# Altium footprint library SensingBox.PcbLib: 44 footprints (part 1 of 3)
Each footprint in its own frame and in the unit in brackets; x right, y up, seen from the top. Pads: shape width x height; smd on the part's side, far side on the other; paste and mask are expansions set on the pad; w line width, h text height; cw(c..) or ccw(c..) is an arc to the next point about the centre after c.
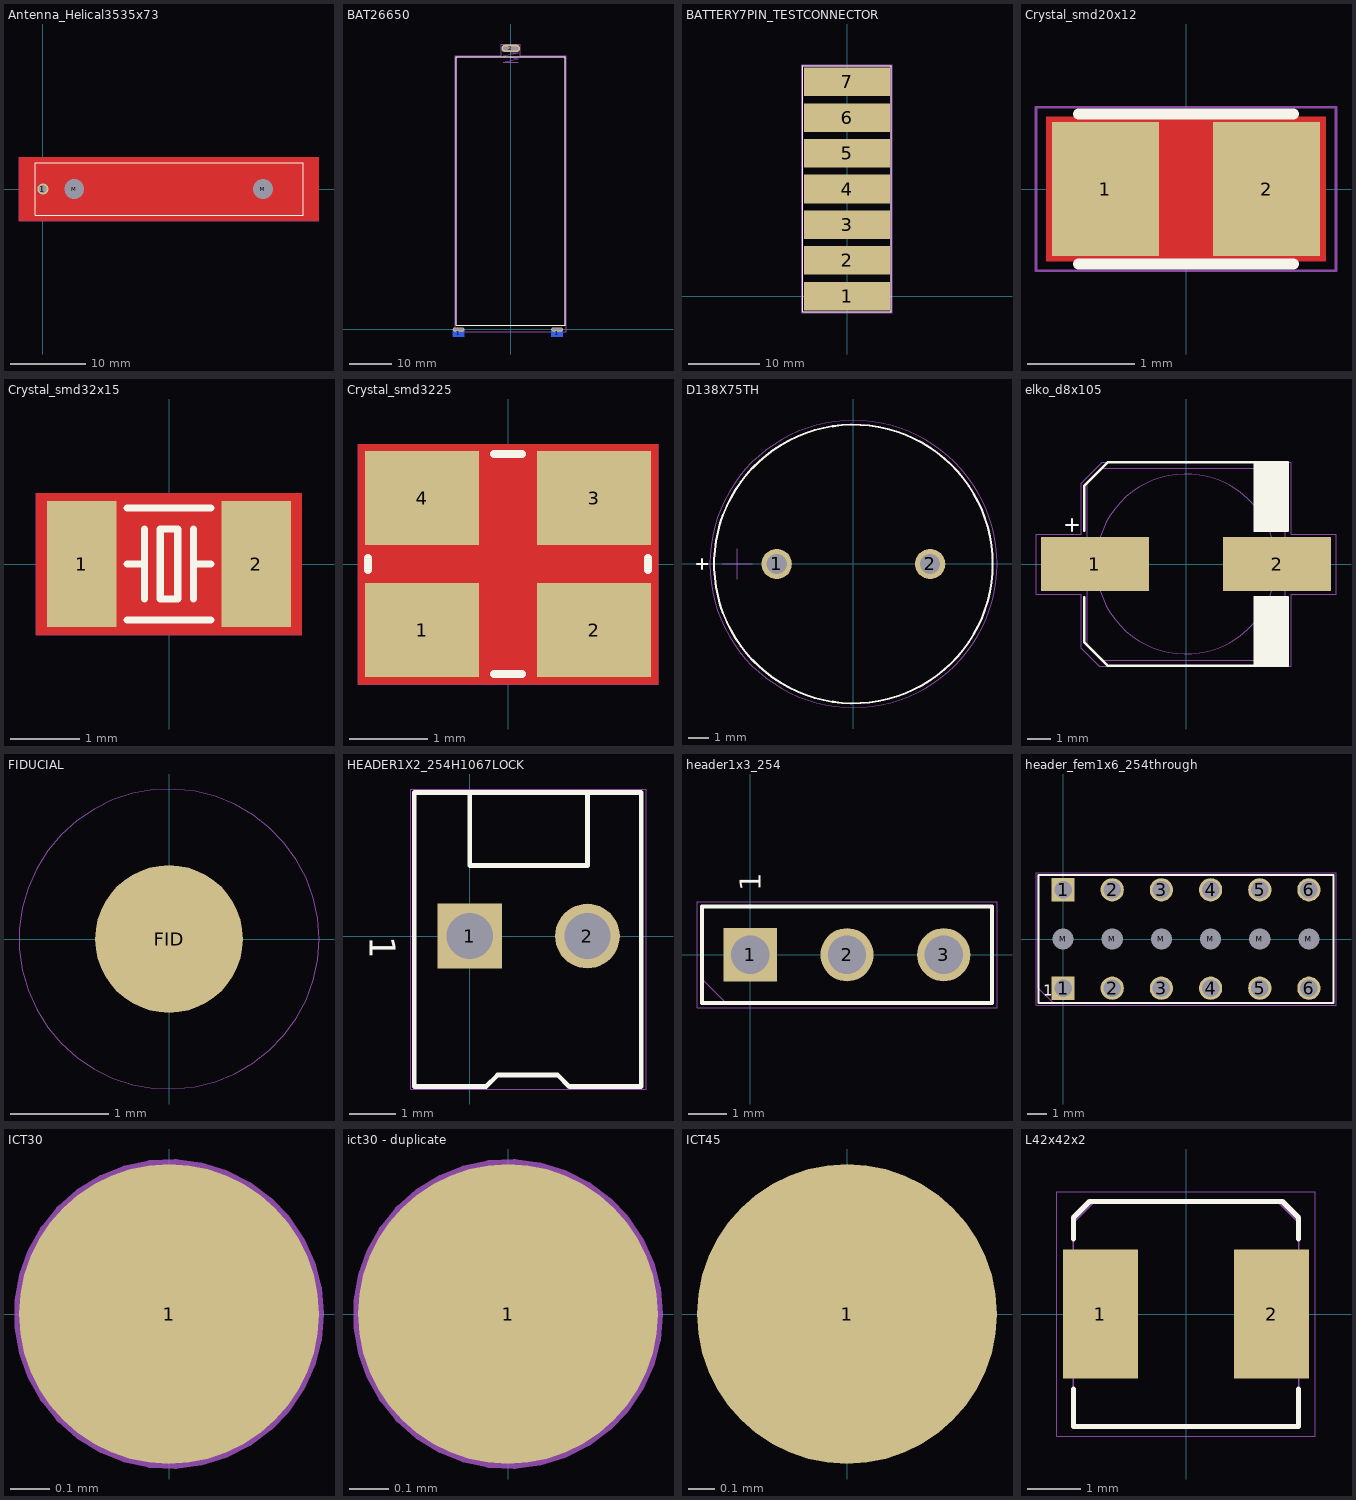
[diagram p0: the footprints below, top view; thin cyan lines are the x and y axes]

## Antenna_Helical3535x73 [mm]
pads (3):
  round 1.5 hole 1: 1(0,0)
  round 1 hole 2.6 unplated: M(4.15,0) M(29.15,0)
Top Layer:
  pour cut-out: -3.175,-4.191 36.576,-4.191 36.576,4.191 -3.175,4.191
Top Overlay:
  lines w0.102: -1,-3.5 -1,3.5 34.5,3.5 34.5,-3.5 -1,-3.5
Mechanical 3:
  lines w0.025: -1,-3.5 -1,3.5 34.5,3.5 34.5,-3.5 -1,-3.5
Mechanical 5:
  lines w0: -3.175,-4.191 -3.175,4.191 36.576,4.191 36.576,-4.191 -3.175,-4.191
Mechanical 7:
  text ".Designator" at 16.256,1.397 h0.38
3D body: height 1.8, standoff -2.2, extent 27.9,-1.249 30.4,1.25
3D body: height 1.8, standoff -2.2, extent 2.9,-1.249 5.4,1.25
3D body: height 7.3, standoff 0.3, extent -1,-3.5 34.5,3.5

## BAT26650 [mm]
pads (5):
  rect 2.8x1.8 smd far side: 1(-12.45,-0.9) 1(11.05,-0.9)
  oval 2.8x1 hole 0.5 slot 2.3 at 0 deg: 1(-12.45,0) 1(11.05,0)
  oval 4.5x1.8 hole 0.8 slot 3.5 at 0 deg: 2(0,67)
Top Overlay:
  lines w0.102: -13,1 -13,65 13,65 13,1 -13,1
Bottom Overlay:
  lines w0.102: -14.527,0 -14.019,0 ; -14.273,-0.254 -14.273,0.254 ; -12.638,0.885 -12.13,0.885 ; -12.384,0.631 -12.384,1.139 ; -10.88,0 -10.372,0 ; -10.626,-0.254 -10.626,0.254 ; -3.008,67 -2.5,67 ; -0.208,65.9 0.3,65.9 ; 2.492,67 3,67 ; 8.973,0 9.481,0 ; 9.227,-0.254 9.227,0.254 ; 10.862,0.885 11.37,0.885 ; 11.116,0.631 11.116,1.139 ; 12.62,0 13.128,0 ; 12.874,-0.254 12.874,0.254
Mechanical 3:
  lines w0.025: -12.704,0 -12.196,0 ; -12.45,-0.254 -12.45,0.254 ; -0.254,67 0.254,67 ; 0,67 0,65.984 1.734,65.984 1.75,66 -1.75,65.25 1.75,64.5 -1.75,63.75 1.75,63.75 ; 10.796,0 11.304,0 ; 11.05,-0.254 11.05,0.254 ; -13,1 -13,65 13,65 13,1 -13,1
Mechanical 5:
  lines w0: -13.208,-0.6 13.208,-0.6 13.208,65.2 2.3,65.2 2.3,65.9 2.3,68 -2.3,68 -2.3,65.2 -13.208,65.2 -13.208,-0.6
Mechanical 7:
  text ".Designator" at 7.898,29.868 h0.38
3D body: height 26, standoff 0, extent -13,0 13,65

## BATTERY7PIN_TESTCONNECTOR [mm]
pads (7):
  rect 12x4 smd paste-3: 1(0,0) 2(0,5) 3(0,10) 4(0,15) 5(0,20) 6(0,25) 7(0,30)
Top Overlay:
  lines w0.102: -6.223,-2.174 6.223,-2.174 6.223,32.243 -6.223,32.243 -6.223,-2.174
Mechanical 3:
  lines w0.025: -6.223,-2.174 6.223,-2.174 6.223,32.243 -6.223,32.243 -6.223,-2.174
Mechanical 5:
  lines w0: -6.35,-2.301 6.35,-2.301 6.35,32.37 -6.35,32.37 -6.35,-2.301
Mechanical 7:
  text ".Designator" at -1.524,14.59 h0.38
3D body: height 0.1, standoff 0, extent -6,28 6,32
3D body: height 0.1, standoff 0, extent -6,23 6,27
3D body: height 0.1, standoff 0, extent -6,18 6,22
3D body: height 0.1, standoff 0, extent -6,13 6,17
3D body: height 0.1, standoff 0, extent -6,8 6,12
3D body: height 0.1, standoff 0, extent -6,3 6,7
3D body: height 0.1, standoff 0, extent -6,-2 6,2

## Crystal_smd20x12 [mm]
pads (2):
  rect 1x1.25 smd: 1(-0.75,0) 2(0.75,0)
Top Layer:
  pour cut-out: -1.3,-0.675 1.3,-0.675 1.3,0.675 -1.3,0.675
Top Overlay:
  lines w0.102: -1,-0.7 1,-0.7 ; -1,0.7 1,0.7
Mechanical 3:
  lines w0.025: -1.025,-0.6 -1.025,0.6 1.025,0.6 1.025,-0.6 -1.025,-0.6
Mechanical 5:
  lines w0.025: -1.397,-0.762 -1.397,0.762 1.397,0.762 1.397,-0.762 -1.397,-0.762
Mechanical 7:
  text ".Designator" at 0.147,-0.241 h0.38
3D body: height 0.6, standoff 0, extent -1,-0.6 1,0.6

## Crystal_smd32x15 [mm]
pads (2):
  rect 1x1.8 smd: 1(-1.25,0) 2(1.25,0)
Top Layer:
  pour cut-out: -1.905,-1.016 1.905,-1.016 1.905,1.016 -1.905,1.016
Top Overlay:
  lines w0.102: -0.6,-0.8 0.6,-0.8 ; -0.6,0 -0.35,0 ; -0.6,0.8 0.6,0.8 ; -0.35,-0.5 -0.35,0.5 ; 0.35,-0.5 0.35,0.5 ; 0.35,0 0.6,0 ; -0.125,-0.5 -0.125,0.5 0.125,0.5 0.125,-0.5 -0.125,-0.5
Mechanical 3:
  lines w0.025: -1.6,-0.75 1.6,-0.75 1.6,0.75 -1.6,0.75 -1.6,-0.75
Mechanical 5:
  lines w0: -1.905,-1.016 1.905,-1.016 1.905,1.016 -1.905,1.016 -1.905,-1.016
Mechanical 7:
  text ".Designator" at 0,-0.279 h0.38
3D body: height 0.91, standoff 0, extent -1.61,-0.76 1.61,0.76

## Crystal_smd3225 [mil]
pads (4):
  rect 57x47 smd: 1(-43,-33) 2(43,-33) 3(43,33) 4(-43,33)
Top Layer:
  pour cut-out: -75,60 75,60 75,-60 -75,-60
Top Overlay:
  lines w4: -70,-3 -70,3 ; -7,-55 7,-55 ; -7,55 7,55 ; 70,-3 70,3
Mechanical 3:
  lines w1: -63,-41 -63,50 63,50 63,-50 -54,-50 -63,-41
Mechanical 5:
  lines w0: -75,-60 75,-60 75,60 -75,60 -75,-60
Mechanical 7:
  text ".Designator" at 15,-25 h15
3D body: height 29.53, standoff 0, extent -63,-49.21 62.98,49.21

## D138X75TH [mm]
pads (2):
  round 1.5 hole 1: 1(-3.8,0) 2(3.8,0)
Top Overlay:
  circle w0.102: c0,0 r6.9
  lines w0.102: -7.747,0 -7.239,0 ; -7.493,-0.254 -7.493,0.254
Mechanical 3:
  circle w0.025: c0,0 r6.9
  lines w0.025: -6.5,0 -5,0 ; -5.75,-0.75 -5.75,0.75
Mechanical 5:
  circle w0: c0,0 r7.112
Mechanical 7:
  text ".Designator" at 0.381,0.254 h0.38
3D body: height 7.5, standoff -2.95, extent -7,-7 7,7

## elko_d8x105 [mil]
pads (2):
  rect 180x90 smd: 1(-152,0) 2(152,0)
Top Overlay:
  rectangle: 114.17,-169.29 169.29,-55.12
  rectangle: 114.17,55.12 169.29,169.29
  lines w4: -200,65 -180,65 ; -190,55 -190,75 ; -169.29,-55 -169.29,-130.71 -130.71,-169.29 169.29,-169.29 169.29,-55 114.29,-55 114.17,-55.12 114.17,-169.29 ; -169.29,55 -169.29,130.71 -130.71,169.29 169.29,169.29 169.29,55 114.29,55 114.17,55.12 114.17,169.29
Mechanical 3:
  circle w0: c0,0 r150
  lines w1: -130,0 -100,0 ; -115,-15 -115,15 ; -165,-135 -165,135 -140,160 165,160 165,-160 -140,-160 -165,-135
Mechanical 5:
  lines w0: -250,-50 -175,-50 -175,-140 -145,-170 175,-170 175,-50 250,-50 250,50 175,50 175,170 -140,170 -175,135 -175,50 -250,50 -250,-50
Mechanical 7:
  text ".Designator" at -15,0 h15
3D body: height 413.39, standoff 11.42, extent -195.86,-163.39 193.9,163.38

## FIDUCIAL [mm]
pads (1):
  round 1.5 smd paste-1: FID(0,0)
Mechanical 5:
  circle w0: c0,0 r1.524
3D body: height 0.03, standoff 0, extent -0.75,-0.75 0.75,0.75

## HEADER1X2_254H1067LOCK [mil]
pads (2):
  rect 55x55 hole 39.37: 1(0,0)
  round 55 hole 39.37: 2(100,0)
Top Overlay:
  lines w4: 0,122.05 0,60 100,60 100,122.05 ; -47.24,-127.95 13.78,-127.95 23.62,-118.11 74.8,-118.11 84.65,-127.95 145.67,-127.95 145.67,122.05 -47.24,122.05 -47.24,-127.95
  text "1" at -85,0 h22.01
Mechanical 3:
  lines w1: 0,122.05 0,60 100,60 100,122.05 ; -47.24,-127.95 -47.24,122.05 145.67,122.05 145.67,-127.95 84.65,-127.95 74.8,-118.11 23.62,-118.11 13.78,-127.95 -47.24,-127.95
Mechanical 5:
  lines w0: -50,-130 -50,125 150,125 150,-130 -50,-130
Mechanical 7:
  text ".Designator" at 45,15 h15
3D body: height 420.49, standoff -139.51, extent -47.78,-127.99 146.22,122.01

## header1x3_254 [mil]
pads (3):
  rect 55x55 hole 39.37: 1(0,0)
  round 55 hole 39.37: 2(100,0) 3(200,0)
Top Overlay:
  lines w4: -50,-50 250,-50 250,50 -50,50 -50,-50
  text "1" at 10.79,65.51 h22.01
Mechanical 3:
  lines w1: -50,-25 -25,-50 250,-50 250,50 -50,50 -50,-25
Mechanical 5:
  lines w0: -55,-55 -55,55 255,55 255,-55 -55,-55
Mechanical 7:
  text ".Designator" at 105.79,-19.49 h15
3D body: height 364.17, standoff -112.87, extent -50,-50 250,48.43

## header_fem1x6_254through [mm]
pads (18):
  rect 1.2x1.2 hole 0.9: 1(0,-2.54) 1(0,2.54)
  round 1.2 hole 0.9: 2(2.54,-2.54) 2(2.54,2.54) 3(5.08,-2.54) 3(5.08,2.54) 4(7.62,-2.54) 4(7.62,2.54) 5(10.16,-2.54) 5(10.16,2.54) 6(12.7,-2.54) 6(12.7,2.54)
  rect 0.5x0.5 hole 1.1 unplated: M(0,0)
  round 0.5 hole 1.1 unplated: M(2.54,0) M(5.08,0) M(7.62,0) M(10.16,0) M(12.7,0)
Top Overlay:
  lines w0.102: -1.27,-3.302 13.97,-3.302 13.97,3.302 -1.27,3.302 -1.27,-3.302
  text "1" at -1.016,-2.921 h0.56
Mechanical 3:
  lines w0.025: -1.27,-2.54 -0.508,-3.302 13.97,-3.302 13.97,3.302 -1.27,3.302 -1.27,-2.54
Mechanical 5:
  lines w0: -1.397,-3.429 14.097,-3.429 14.097,3.429 -1.397,3.429 -1.397,-3.429
Mechanical 7:
  text ".Designator" at 6.092,0.057 h0.38
3D body: height 8.5, standoff -3, extent -1.27,-2.84 13.97,2.84

## ICT30 [mil]
pads (1):
  round 30 smd paste-39.37: 1(0,0)
Mechanical 3:
  circle w1: c0,0 r15
Mechanical 7:
  text ".Designator" at 25,40 h15
Mechanical 11:
  circle w0: c0,0 r15
Mechanical 15:
  circle w0: c0,0 r15
3D body: height 1, standoff 0, extent -15.27,-15.27 15.27,15.27

## ict30 - duplicate [mil]
pads (1):
  round 30 smd paste-39.37: 1(0,0)
Mechanical 3:
  circle w1: c0,0 r15
Mechanical 7:
  text ".Designator" at -2.95,-27.95 h15
Mechanical 11:
  circle w0: c0,0 r15
Mechanical 15:
  circle w0: c0,0 r15
3D body: height 1, standoff 0, extent -15.27,-15.27 15.27,15.27

## ICT45 [mil]
pads (1):
  round 45 smd paste-39.37 mask+0: 1(0,0)

## L42x42x2 [mm]
pads (2):
  rect 1.4x2.4 smd: 1(-1.6,0) 2(1.6,0)
Top Overlay:
  lines w0.102: -2.1,-1.4 -2.1,-2.1 2.1,-2.1 2.1,-1.4 ; -2.1,1.4 -2.1,1.8 -1.8,2.1 1.8,2.1 2.1,1.8 2.1,1.4
Mechanical 3:
  lines w0.025: -2.1,-2.1 2.1,-2.1 2.1,1.7 1.7,2.1 -1.7,2.1 -2.1,1.7 -2.1,-2.1
Mechanical 5:
  lines w0: -2.413,-2.286 2.413,-2.286 2.413,2.286 -2.413,2.286 -2.413,-2.286
Mechanical 7:
  text ".Designator" at 0.762,0.254 h0.38
3D body: height 2, standoff 0, extent -2.1,-2.1 2.1,2.1